# EAGLE library part INA219AIDCNR (library INA219AIDCNR)
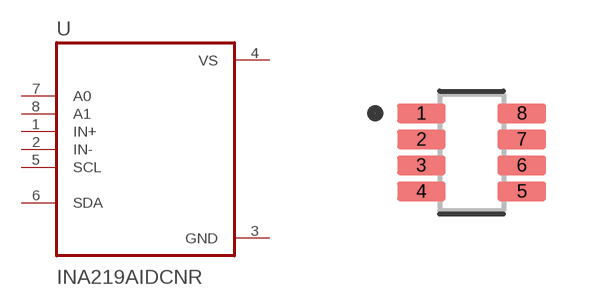
[diagram p0: symbol with the pads of SOT65P280X145-8N; footprint SOT65P280X145-8N]

Designator prefix U

## INA219AIDCNR (Availability: Unavailable; Description: 26V, 12-bit, i2c output current/voltage/power monitor 8-SOT-23 -40 to 125; DigiKey-Purchase-URL: https://snapeda.com/shop?store=DigiKey&id=271718; MF: Texas Instruments; MP: INA219AIDCNR; Mouser-Purchase-URL: https://snapeda.com/shop?store=Mouser&id=271718; Package: SOT-23-8 Texas Instruments; Price: None; Texas_Instruments-Purchase-URL: https://snapeda.com/shop?store=Texas+Instruments&id=271718)  [SOT65P280X145-8N]
1  IN+  in
2  IN-  in
3  GND  pwr
4  VS  pwr
5  SCL  in
6  SDA
7  A0  in
8  A1  in

## Footprint SOT65P280X145-8N (pad centres in mm)
smd 1.21 x 0.48: 1 -1.255,0.975; 2 -1.255,0.325; 3 -1.255,-0.325; 4 -1.255,-0.975; 5 1.255,-0.975; 6 1.255,-0.325; 7 1.255,0.325; 8 1.255,0.975